# EAGLE library part FT231X (library MyLibrary)
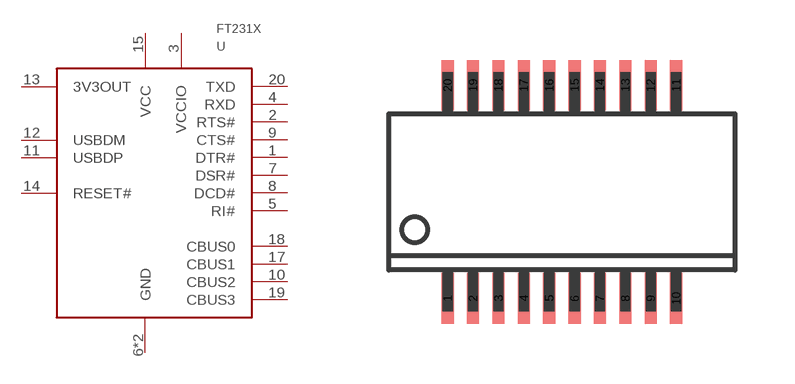
[diagram p8: symbol with the pads of SSOP-20; footprint SSOP-20]

Designator prefix -

## FT231X  [SSOP-20]
1  DTR#
2  RTS#
3  VCCIO
4  RXD
5  RI#
6  GND
7  DSR#
8  DCD#
9  CTS#
10  CBUS2
11  USBDP
12  USBDM
13  3V3OUT
14  RESET#
15  VCC
16  GND
17  CBUS1
18  CBUS0
19  CBUS3
20  TXD

## Footprint SSOP-20 (pad centres in mm)
smd 0.305 x 1.27: 1 -2.857,-2.667; 2 -2.223,-2.667; 3 -1.587,-2.667; 4 -0.953,-2.667; 5 -0.318,-2.667; 6 0.318,-2.667; 7 0.953,-2.667; 8 1.587,-2.667; 9 2.223,-2.667; 10 2.857,-2.667; 11 2.857,2.667; 12 2.223,2.667; 13 1.587,2.667; 14 0.953,2.667; 15 0.318,2.667; 16 -0.318,2.667; 17 -0.953,2.667; 18 -1.587,2.667; 19 -2.223,2.667; 20 -2.857,2.667